# Altium footprint library TB-2 (385).PcbLib: 1 footprints
Each footprint in its own frame and in the unit in brackets; x right, y up, seen from the top. Pads: shape width x height; smd on the part's side, far side on the other; paste and mask are expansions set on the pad; w line width, h text height; cw(c..) or ccw(c..) is an arc to the next point about the centre after c.
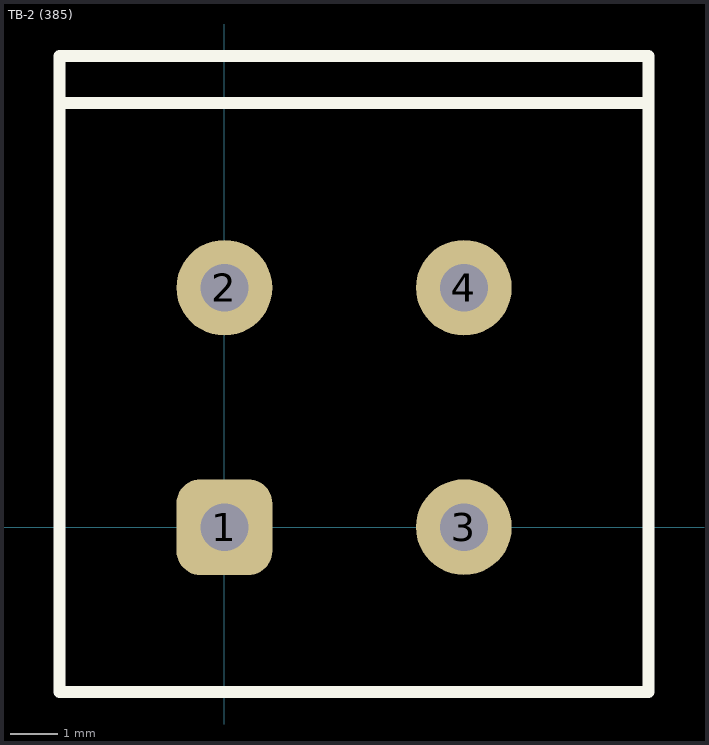
[diagram p0: the footprint, top view; thin cyan lines are the x and y axes]

## TB-2 (385) [mil] "Разъем"
pads (4):
  rrect50% 80x80 hole 40: 1(0,0)
  round 80 hole 40: 2(0,200) 3(200,0) 4(200,200)
Top Overlay:
  lines w10: -137.8,354.33 -137.8,393.7 354.33,393.7 354.33,354.33 ; -137.8,354.33 354.33,354.33 ; -137.8,354.33 -137.8,-137.8 354.33,-137.8 354.33,354.33
3D body: height 393.7, standoff 0, extent -140,-140 360,360
3D body: height 669.29, standoff 393.7, extent -140,0 360,210
3D body: height 314.96, standoff 137.8, extent -140,360 360,400